# Altium footprint library XTD Module.PcbLib: 62 footprints (part 3 of 4)
Each footprint in its own frame and in the unit in brackets; x right, y up, seen from the top. Pads: shape width x height; smd on the part's side, far side on the other; paste and mask are expansions set on the pad; w line width, h text height; cw(c..) or ccw(c..) is an arc to the next point about the centre after c.
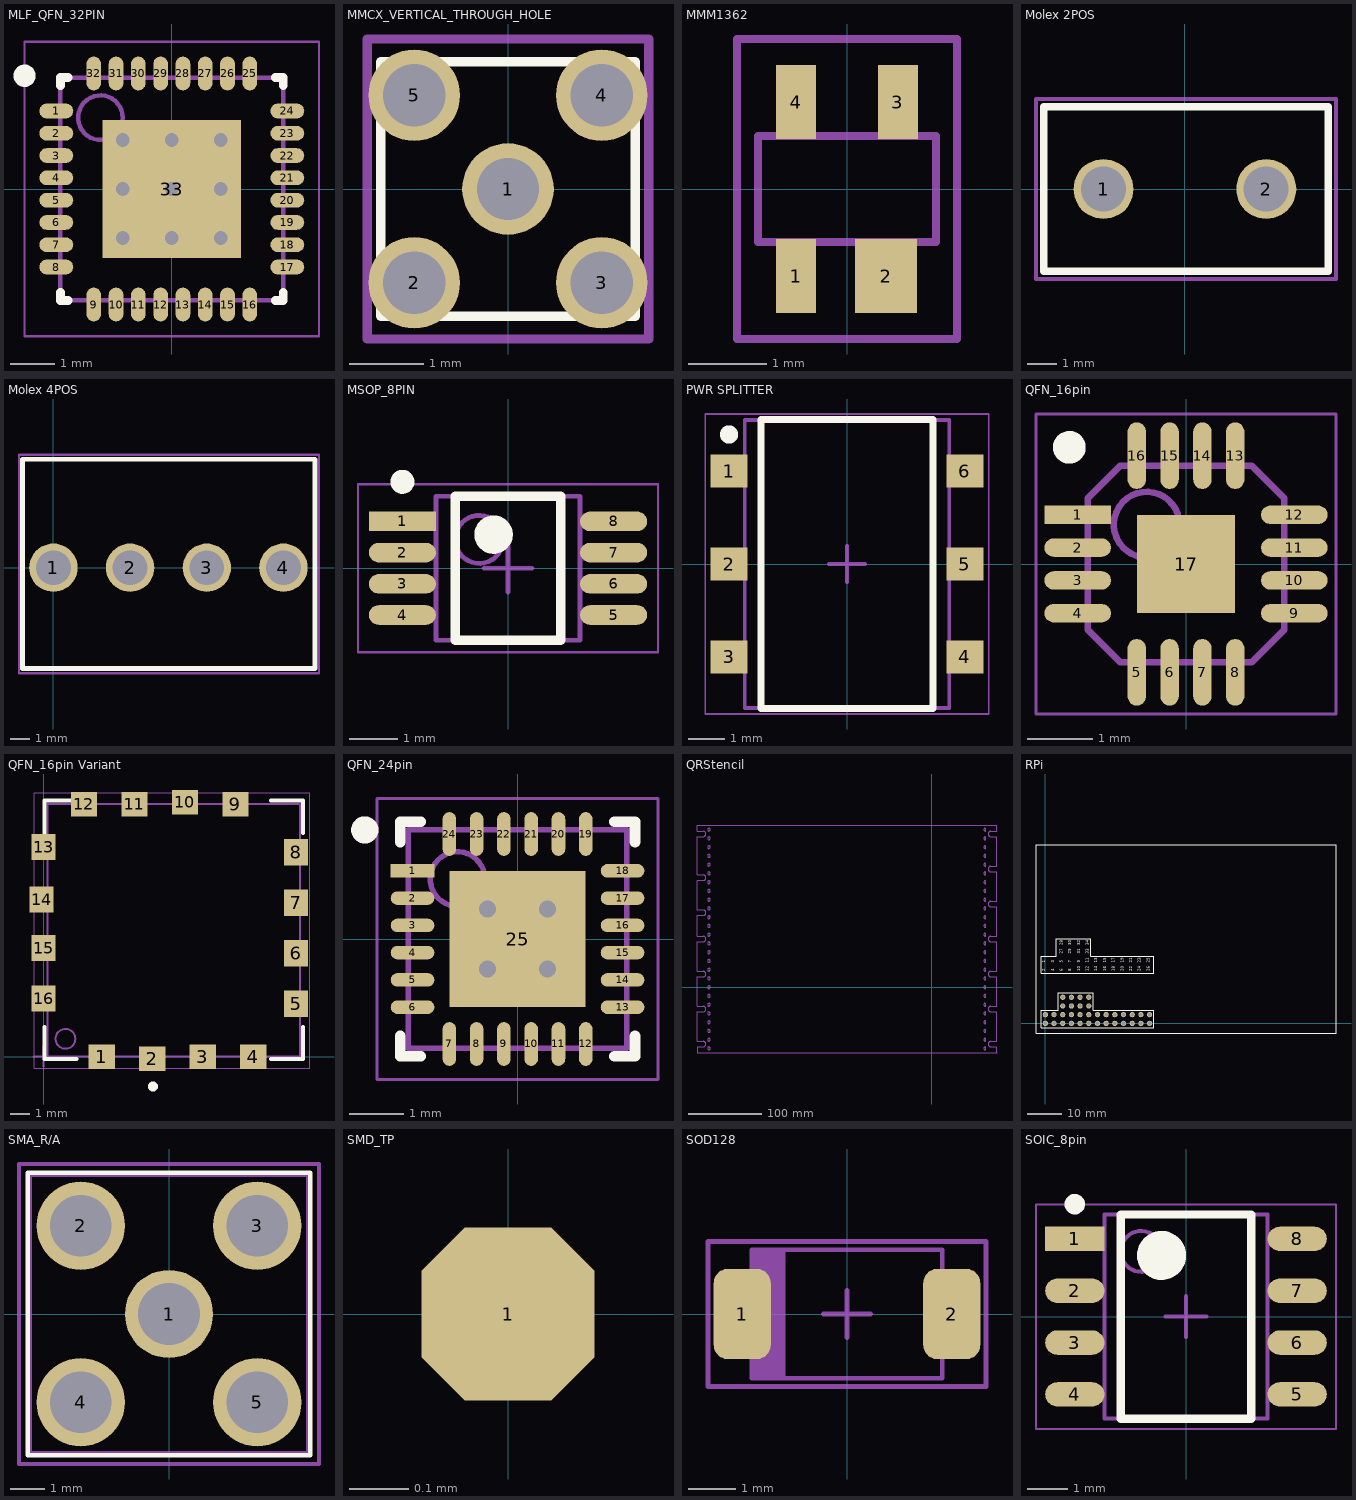
[diagram p2: the footprints below, top view; thin cyan lines are the x and y axes]

## MLF_QFN_32PIN [mil] "PQFN, 32-Leads, Body 5.00x5.00mm, Pitch 0.50mm, Thermal Pad 3.10x3.10mm, IPC Medium Density"
height 33.46
pads (33):
  oval 30x13 smd mask+2: 1(-102,68.9) 2(-102,49.21) 3(-102,29.53) 4(-102,9.84) 5(-102,-9.84) 6(-102,-29.53) 7(-102,-49.21) 8(-102,-68.9) 17(102,-68.9) 18(102,-49.21) 19(102,-29.53) 20(102,-9.84) 21(102,9.84) 22(102,29.53) 23(102,49.21) 24(102,68.9)
  oval 13x30 smd mask+2: 9(-68.9,-102) 10(-49.21,-102) 11(-29.53,-102) 12(-9.84,-102) 13(9.84,-102) 14(29.53,-102) 15(49.21,-102) 16(68.9,-102) 25(68.9,102) 26(49.21,102) 27(29.53,102) 28(9.84,102) 29(-9.84,102) 30(-29.53,102) 31(-49.21,102) 32(-68.9,102)
  rect 122.05x122.05 smd: 33(0,0)
via -43.31,43.31 diameter 25 hole 12
via 0,43.31 diameter 25 hole 12
via 43.31,43.31 diameter 25 hole 12
via -43.31,0 diameter 25 hole 12
via 0,0 diameter 25 hole 12
via 43.31,0 diameter 25 hole 12
via -43.31,-43.31 diameter 25 hole 12
via 0,-43.31 diameter 25 hole 12
via 43.31,-43.31 diameter 25 hole 12
Top Overlay:
  circle w9.84: c-130,100 r4.92
  lines w7.87: -98.43,-91.54 -98.43,-98.43 -91.54,-98.43 ; -98.43,91.54 -98.43,98.43 -91.54,98.43 ; 91.54,-98.43 98.43,-98.43 98.43,-91.54 ; 91.54,98.43 98.43,98.43 98.43,91.54
Mechanical 13:
  circle w3.94: c-62.99,62.99 r19.68
  lines w3.94: -98.43,-98.43 -98.43,98.43 98.43,98.43 98.43,-98.43 -98.43,-98.43
Mechanical 15:
  lines w1.97: -130,-130 -130,130 130,130 130,-130 -130,-130
  lines w3.94: -19.68,0 19.69,0 ; 0,-19.69 0,19.68
3D body: height 33.46, standoff 1.97, extent -98.43,-98.43 98.43,98.43

## MMCX_VERTICAL_THROUGH_HOLE [mm]
height 7.44
pads (5):
  round 1.24 hole 0.84: 1(0,0) 2(-1.27,-1.27) 3(1.27,-1.27) 4(1.27,1.27) 5(-1.27,1.27)
Top Overlay:
  lines w0.127: -1.725,-1.725 1.725,-1.725 1.725,1.725 -1.725,1.725 -1.725,-1.725
Mechanical 15:
  lines w0.127: -1.905,-2.032 -1.905,2.032 1.905,2.032 1.905,-2.032 -1.905,-2.032
3D body: height 3.02, standoff 0, extent -0.348,-0.35 0.35,0.35
3D body: height 3.02, standoff 0, extent -1.518,-1.519 -1.018,-1.019
3D body: height 3.02, standoff 0, extent 1.02,-1.519 1.52,-1.019
3D body: height 3.02, standoff 0, extent 1.02,1.02 1.52,1.52
3D body: height 3.02, standoff 0, extent -1.518,1.02 -1.018,1.52
3D body: height 0.89, standoff 0, extent -1.727,-1.727 1.727,1.727
3D body: height 4.42, standoff 0.89, extent -1.268,-1.269 1.27,1.27

## MMM1362 [mil]
height 43.31
pads (4):
  rect 20x37 smd: 1(-25.5,-43.5) 3(25.5,43.5) 4(-25.5,43.5)
  rect 31x37 smd: 2(19.5,-43.5)
Mechanical 13:
  lines w4: -44.5,-26.5 44.5,-26.5 44.5,26.5 -44.5,26.5 -44.5,-26.5
Mechanical 15:
  lines w4: -55,-75 -55,75 55,75 55,-75 -55,-75
3D body: height 43, standoff 0, extent -44.5,-26.5 44.5,26.5
3D body: height 44, standoff 43, extent -30,-20 -20.04,-10.02

## Molex 2POS [mil] "CONN HEADER 2POS 4.2MM VERT TIN"
height 50
pads (2):
  round 80 hole 60: 1(-108.5,0) 2(108.5,0)
Top Overlay:
  lines w10: -188.5,-110 -188.5,110 191.5,110 191.5,-110 -188.5,-110
Mechanical 15:
  lines w5: -198.5,-120 201.5,-120 201.5,120 -198.5,120 -198.5,-120
3D body: height 140, standoff 0, extent 83.5,-25 133.5,25
3D body: height 140, standoff 0, extent -133.5,-25 -83.5,25
3D body: height 500, standoff 0, extent -188.5,-110 191.5,110

## Molex 4POS [mm] "CONN HEADER 4POS 3.96MM VERT TIN"
height 12.25
pads (4):
  round 2.5 hole 1.8: 1(0,0) 2(3.96,0) 3(7.92,0) 4(11.88,0)
Top Overlay:
  lines w0.254: -1.6,-5.2 13.5,-5.2 13.5,5.6 -1.6,5.6 -1.6,-5.2
Mechanical 15:
  lines w0.127: -1.778,-5.461 -1.778,5.842 13.716,5.842 13.716,-5.461 -1.778,-5.461
3D body: height 13.85, standoff -3.6, extent -1.64,-5.15 13.44,5.6

## MSOP_8PIN [mm] "TSOP, 8-Leads, Body 3.00x3.00mm, Pitch 0.65mm, IPC Medium Density"
height 1
pads (8):
  rect 1.4x0.406 smd mask+0.051: 1(-2.2,0.975)
  oval 1.4x0.406 smd mask+0.051: 2(-2.2,0.325) 3(-2.2,-0.325) 4(-2.2,-0.975) 5(2.2,-0.975) 6(2.2,-0.325) 7(2.2,0.325) 8(2.2,0.975)
Top Overlay:
  circle w0.4: c-0.3,0.7 r0.2
  circle w0.25: c-2.2,1.8 r0.125
  lines w0.2: -1.1,-1.5 1.1,-1.5 1.1,1.5 -1.1,1.5 -1.1,-1.5
Mechanical 13:
  circle w0.1: c-0.6,0.6 r0.5
  lines w0.1: -1.5,-1.5 1.5,-1.5 1.5,1.5 -1.5,1.5 -1.5,-1.5
Mechanical 15:
  lines w0.05: -3.125,-1.75 3.125,-1.75 3.125,1.75 -3.125,1.75 -3.125,-1.75
  lines w0.1: -0.5,0 0.5,0 ; 0,-0.5 0,0.5
3D body: height 1, standoff 1, extent -1.5,-1.5 1.5,1.5

## PWR SPLITTER [mm] "SOTFL, 6-Leads, Body 7.87x6.91mm, Pitch 2.54mm, IPC Medium Density"
height 4.11
pads (6):
  rect 1x0.9 smd: 1(-3.225,2.54) 2(-3.225,0) 3(-3.225,-2.54) 4(3.225,-2.54) 5(3.225,0) 6(3.225,2.54)
Top Overlay:
  circle w0.25: c-3.225,3.54 r0.125
  lines w0.2: -2.35,-3.95 2.35,-3.95 2.35,3.95 -2.35,3.95 -2.35,-3.95
Mechanical 13:
  lines w0.1: -2.795,-3.935 -2.795,3.935 2.795,3.935 2.795,-3.935 -2.795,-3.935
Mechanical 15:
  lines w0.05: -3.875,-4.1 -3.875,4.1 3.875,4.1 3.875,-4.1 -3.875,-4.1
  lines w0.1: -0.5,0 0.5,0 ; 0,-0.5 0,0.5
3D body: height 4.11, standoff 0, extent -2.795,-3.935 2.795,3.935

## QFN_16pin [mil] "QFN, 16-Leads, Body 3.00x3.00mm, Pitch 0.50mm, Thermal Pad 1.50x1.50mm, IPC Medium Density"
height 31.5
pads (17):
  rect 40x11 smd paste+0: 1(-65,29.53)
  oval 40x11 smd paste+0: 2(-65,9.84) 3(-65,-9.84) 4(-65,-29.53)
  oval 11x40 smd: 5(-29.53,-65) 6(-9.84,-65) 7(9.84,-65) 8(29.53,-65) 13(29.53,65) 14(9.84,65) 15(-9.84,65) 16(-29.53,65)
  oval 40x11 smd: 9(65,-29.53) 10(65,-9.84) 11(65,9.84) 12(65,29.53)
  rect 59.06x59.06 smd: 17(0,0)
Top Overlay:
  circle w9.84: c-70,70 r4.92
Mechanical 13:
  circle w3.94: c-23.62,23.62 r19.68
  lines w3.94: -59.06,-39.37 -39.37,-59.06 39.37,-59.06 59.06,-39.37 59.06,39.37 39.37,59.06 -39.37,59.06 -59.06,39.37 -59.06,-39.37
Mechanical 15:
  lines w1.97: -90,-90 -90,90 90,90 90,-90 -90,-90
  lines w3.94: -19.69,0 19.68,0 ; 0,-19.68 0,19.69
3D body: height 31.5, standoff 1.97, extent -59.06,-59.06 59.06,59.06

## QFN_16pin Variant [mil] "QFN, 16-Leads, Body 12.70x12.70mm, Pitch 2.54mm, Variant"
height 150
pads (16):
  rect 52x48 smd: 1(115,0) 2(215,-4) 3(315,0) 4(415,0) 9(380,500) 10(280,504) 11(180,500) 12(80,500)
  rect 48x52 smd: 5(500,105) 6(500,205) 7(500,305) 8(500,405) 14(-4,311.06) 15(0,215) 16(0,115)
  rect 48.03x51.97 smd: 13(0,415)
Top Overlay:
  circle w9.84: c216.54,-59.06 r4.92
  lines w7.87: 1.97,58.66 1.97,-4.92 65.55,-4.92 ; 1.97,443.31 1.97,506.89 65.55,506.89 ; 450.2,-4.92 513.78,-4.92 513.78,58.66 ; 450.2,506.89 513.78,506.89 513.78,443.31
Mechanical 13:
  circle w3.94: c43.31,35.43 r19.68
  lines w3.94: 7.87,0 507.87,0 507.87,500 7.87,500 7.87,0
Mechanical 15:
  lines w1.97: -18.58,-22.72 -18.58,522.56 526.69,522.56 526.69,-22.72 -18.58,-22.72
  lines w3.94: -19.69,0 19.68,0 ; 0,-19.68 0,19.69
3D body: height 150, standoff 0, extent 0,0 500,500

## QFN_24pin [mm] "QFN, 24-Leads, Body 4.00x4.00mm, Pitch 0.50mm, Thermal Pad 2.50x2.50mm, IPC Medium Density"
height 0.8
pads (25):
  rect 0.8x0.25 smd: 1(-1.925,1.25)
  oval 0.8x0.25 smd: 2(-1.925,0.75) 3(-1.925,0.25) 4(-1.925,-0.25) 5(-1.925,-0.75) 6(-1.925,-1.25) 13(1.925,-1.25) 14(1.925,-0.75) 15(1.925,-0.25) 16(1.925,0.25) 17(1.925,0.75) 18(1.925,1.25)
  oval 0.25x0.8 smd: 7(-1.25,-1.925) 8(-0.75,-1.925) 9(-0.25,-1.925) 10(0.25,-1.925) 11(0.75,-1.925) 12(1.25,-1.925) 19(1.25,1.925) 20(0.75,1.925) 21(0.25,1.925) 22(-0.25,1.925) 23(-0.75,1.925) 24(-1.25,1.925)
  rect 2.5x2.5 smd: 25(0,0)
via 0.55,-0.55 diameter 0.635 hole 0.305
via -0.55,-0.55 diameter 0.635 hole 0.305
via 0.55,0.55 diameter 0.635 hole 0.305
via -0.55,0.55 diameter 0.635 hole 0.305
Top Overlay:
  circle w0.25: c-2.8,2 r0.125
  lines w0.2: -2.15,-1.775 -2.15,-2.15 -1.775,-2.15 ; -2.15,1.775 -2.15,2.15 -1.775,2.15 ; 1.775,-2.15 2.15,-2.15 2.15,-1.775 ; 1.775,2.15 2.15,2.15 2.15,1.775
Mechanical 13:
  circle w0.1: c-1.1,1.1 r0.5
  lines w0.1: -2,-2 2,-2 2,2 -2,2 -2,-2
Mechanical 15:
  lines w0.05: -2.575,-2.575 2.575,-2.575 2.575,2.575 -2.575,2.575 -2.575,-2.575
  lines w0.1: -0.5,0 0.5,0 ; 0,-0.5 0,0.5
3D body: height 0.8, standoff 0.05, extent -2,-2 2,2

## QRStencil [mm]
Mechanical 2:
  drawing of 271 lines, arcs and shapes, not listed

## RPi [mil] "connector for RPi"
height 100
pads (34):
  round 60 hole 41: 1(0,100) 2(0,0) 3(100,100) 4(100,0) 5(200,100) 6(200,0) 7(300,100) 8(300,0) 9(400,100) 10(400,0) 11(500,100) 12(500,0) 13(600,100) 14(600,0) 15(700,100) 16(700,0) 17(800,100) 18(800,0) 19(900,100) 20(900,0) 21(1000,100) 22(1000,0) 23(1100,100) 24(1100,0) 25(1200,100) 26(1200,0) 27(200,200) 28(200,300) 29(300,200) 30(300,300) 31(400,200) 32(400,300) 33(500,200) 34(500,300)
Top Overlay:
  lines w5: -50,575 -50,775 125,775 125,975 525,975 525,775 1250,775 1250,575 -50,575
  lines w10: -107.68,-111.61 -107.68,2053.74 3346.46,2053.74 3346.46,-111.61 -107.68,-111.61 ; -50,-50 1250,-50 1250,150 550,150 550,350 150,350 150,150 -50,150 -50,-50
  text "34" at 500,900 h35
  text "33" at 500,800 h35
  text "32" at 400,900 h35
  text "31" at 400,800 h35
  text "30" at 300,900 h35
  text "29" at 300,800 h35
  text "28" at 200,900 h35
  text "27" at 200,800 h35
  text "26" at 1200,600 h35
  text "25" at 1200,700 h35
  text "24" at 1100,600 h35
  text "23" at 1100,700 h35
  text "22" at 1000,600 h35
  text "21" at 1000,700 h35
  text "20" at 900,600 h35
  text "19" at 900,700 h35
  text "18" at 800,600 h35
  text "17" at 800,700 h35
  text "16" at 700,600 h35
  text "15" at 700,700 h35
  text "14" at 600,600 h35
  text "13" at 600,700 h35
  text "12" at 500,600 h35
  text "11" at 500,700 h35
  text "10" at 400,600 h35
  text "9" at 400,700 h35
  text "8" at 300,600 h35
  text "7" at 300,700 h35
  text "6" at 200,600 h35
  text "5" at 200,700 h35
  text "4" at 100,600 h35
  text "3" at 100,700 h35
  text "2" at 0,600 h35
  text "1" at 0,700 h35
3D body: height 629.92, standoff 0, extent 149.61,153.54 551.18,350.39
3D body: height 629.92, standoff 0, extent -51.18,-51.18 1248.03,153.54

## SMA_R/A [mil] "Panel Mount, Bulkhead; Through Hole,RIGHT ANGLE"
height 411.02
pads (5):
  round 100 hole 70: 1(0,0) 2(-100,100) 3(100,100) 4(-100,-100) 5(100,-100)
Top Overlay:
  lines w5: -160,-160 160,-160 160,160 -160,160 -160,-160
Mechanical 13:
  lines w5: -157.5,-157.5 157.5,-157.5 157.5,157.5 -157.5,157.5 -157.5,-157.5
Mechanical 15:
  lines w5: -170,-170 170,-170 170,170 -160,170 -170,170 -170,-170
3D body: height 155, standoff 0, extent -125,-125 -75,-75
3D body: height 155, standoff 0, extent -25,-25 25,25
3D body: height 155, standoff 0, extent -125,75 -75,125
3D body: height 155, standoff 0, extent 75,-125 125,-75
3D body: height 155, standoff 0, extent 75,75 125,125
3D body: height 377.95, standoff 122.05, extent 157.5,-127.94 607.5,127.96
3D body: height 411.02, standoff 0, extent -157.5,-157.5 157.5,157.5

## SMD_TP [mm] "SURFACE MOUNT TEST PAD"
pads (1):
  oct 0.293x0.293 smd: 1(0,0)

## SOD128 [mm]
pads (2):
  rrect50% 1.2x1.9 smd: 1(-2.2,0) 2(2.2,0)
Mechanical 13:
  region: -2,-1.35 -2,1.35 -1.3,1.35 -1.3,-1.35
  lines w0.1: -2,-1.35 -2,1.35 2,1.35 2,-1.35 -2,-1.35
Mechanical 15:
  lines w0.1: -0.5,0 0.5,0 ; 0,-0.5 0,0.5 ; -2.921,-1.524 -2.921,1.524 2.921,1.524 2.921,-1.524 -2.921,-1.524
3D body: height 1.1, standoff 0, extent -1.3,-1.35 2,1.35
3D body: height 1.1, standoff 0, extent -2,-1.35 -1.3,1.35

## SOIC_8pin [mm] "SOIC, 8-Leads, Body 5.00x4.00mm, Pitch 1.27mm, IPC Medium Density"
height 1.63
pads (8):
  rect 1.45x0.6 smd: 1(-2.725,1.905)
  oval 1.45x0.6 smd: 2(-2.725,0.635) 3(-2.725,-0.635) 4(-2.725,-1.905) 5(2.725,-1.905) 6(2.725,-0.635) 7(2.725,0.635) 8(2.725,1.905)
Top Overlay:
  circle w0.6: c-0.6,1.5 r0.3
  circle w0.25: c-2.725,2.755 r0.125
  lines w0.2: -1.6,-2.5 1.6,-2.5 1.6,2.5 -1.6,2.5 -1.6,-2.5
Mechanical 13:
  circle w0.1: c-1.1,1.6 r0.5
  lines w0.1: -2,-2.5 2,-2.5 2,2.5 -2,2.5 -2,-2.5
Mechanical 15:
  lines w0.05: -3.675,-2.75 3.675,-2.75 3.675,2.75 -3.675,2.75 -3.675,-2.75
  lines w0.1: -0.5,0 0.5,0 ; 0,-0.5 0,0.5
3D body: height 1.63, standoff 0.15, extent -2,-2.5 2,2.5